# Altium schematic symbol library mechanical_other.SchLib: 5 symbols
Pins are listed as number, name and electrical type; pins without a type are passive.

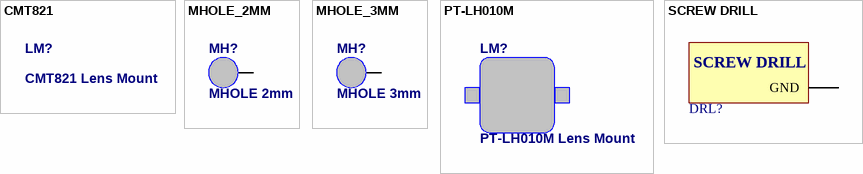
[diagram p0: symbols CMT821 to SCREW DRILL]

## CMT821
designator LM?, comment CMT821 Lens Mount
CMT821 Lens Mount (Sunex Digital Imaging Optics)

## MHOLE_2MM
designator MH?, comment MHOLE 2mm  (no BOM)
2mm Mounting Hole
footprint MHOLE_2MM
pins: 1 GND

## MHOLE_3MM
designator MH?, comment MHOLE 3mm  (no BOM)
3mm Mounting Hole
footprint 3mm screw drill I
footprint 3mm screw drill II
footprint 3mm screw drill III
footprint 4mm screw drill I
pins: 1 GND

## PT-LH010M
designator LM?, comment PT-LH010M Lens Mount
PT-LH010M Lens Mount (M12 Lenses Inc.)
footprint PT-LH010M (M12x0,5 Lens Holder (M12 Lenses))

## SCREW DRILL
designator DRL?  (value not drawn)  (no BOM)
footprint 3mm screw drill I
footprint 3mm screw drill II
pins: 1 GND